# Altium footprint library Other.PcbLib: 2 footprints
Each footprint in its own frame and in the unit in brackets; x right, y up, seen from the top. Pads: shape width x height; smd on the part's side, far side on the other; paste and mask are expansions set on the pad; w line width, h text height; cw(c..) or ccw(c..) is an arc to the next point about the centre after c.
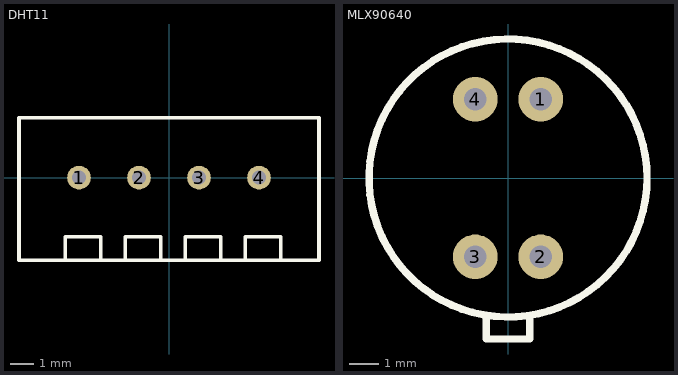
[diagram p0: the footprints below, top view; thin cyan lines are the x and y axes]

## DHT11 [mm]
pads (4):
  round 1 hole 0.6: 1(-3.81,0) 2(-1.27,0) 3(1.27,0) 4(3.81,0)
Top Overlay:
  lines w0.152: -4.39,-3.5 -4.39,-2.5 -2.89,-2.5 -2.89,-3.5 ; -1.85,-3.5 -1.85,-2.5 -0.35,-2.5 -0.35,-3.5 ; 0.69,-3.5 0.69,-2.5 2.19,-2.5 2.19,-3.5 ; 3.23,-3.5 3.23,-2.5 4.73,-2.5 4.73,-3.5 ; -6.35,-3.5 -6.35,0 -6.35,2.54 6.35,2.54 6.35,0 6.35,-3.5 -6.35,-3.5

## MLX90640 [mil]
pads (4):
  round 60 hole 30: 1(44,106) 2(44,-106) 3(-44,-106) 4(-44,106)
Top Overlay:
  circle w10: c0,0 r187.01
  lines w10: -29.53,-187.01 -29.53,-216.54 29.53,-216.54 29.53,-187.01